# Altium schematic symbol library Ferrite bead 220.Schlib: 1 symbol
Pins are listed as number, name and electrical type; pins without a type are passive.

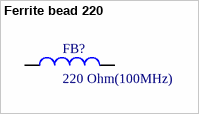
[diagram p0: symbol Ferrite bead 220]

## Ferrite bead 220
designator FB?, comment 220 Ohm(100MHz)
Ferrite bead 220 Ohm(100MHz)
pins: 1, 2